# EAGLE library part VREG_SWITCHING_MPM3610 (library PiB_ic_power)
Switching Adj Voltage Regulator MPM3610 1.2A maximum output current voltage regulator. Takes in any input voltage 4.5V-21V and generates an output in the recommended 0.8V - 5.5V region.
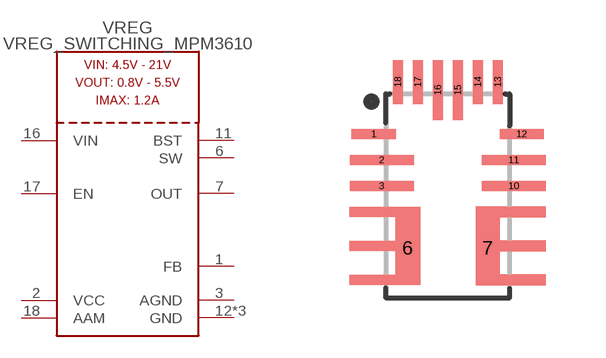
[diagram p7: symbol with the pads of MPM3610GQV_20-POWERLFQFN; footprint MPM3610GQV_20-POWERLFQFN]

Designator prefix VREG

## VREG_SWITCHING_MPM3610GQV-P (DATASHEET: https://www.monolithicpower.com/pub/media/document/MPM3610_r1.01.pdf; DIST: Digikey; DISTLINK: https://www.digikey.com/product-detail/en/monolithic-power-systems-inc/MPM3610GQV-P/1589-1250-1-ND/5298337; DISTPN: 1589-1250-1-ND; MFR: Monolithic Power; MPN: MPM3610GQV-P; VALUE: 1.2A)  [MPM3610GQV_20-POWERLFQFN]
1  FB  in
2  VCC  pwr
3  AGND  pwr
6  SW  out
7  OUT  out
11  BST  pas
12  GND  pwr
13  GND  pwr
14  GND  pwr
16  VIN  in
17  EN  in
18  AAM  in

## Footprint MPM3610GQV_20-POWERLFQFN (pad centres in mm)
smd 1.1 x 0.25: 1 -1.85,1.55; 12 1.85,1.55
smd 1.6 x 0.25: 2 -1.65,0.9; 3 -1.65,0.25; 10 1.65,0.25; 11 1.65,0.9
smd 0.5 x 0.5: 6 -1,-1.3; 7 1,-1.3
smd 0.25 x 1.1: 13 1.25,2.85; 14 0.75,2.85; 17 -0.75,2.85; 18 -1.25,2.85
smd 0.25 x 1.5: 15 0.25,2.65; 16 -0.25,2.65